# Altium footprint library PKMCS1818E20A0-R1.PcbLib: 1 footprints
Each footprint in its own frame and in the unit in brackets; x right, y up, seen from the top. Pads: shape width x height; smd on the part's side, far side on the other; paste and mask are expansions set on the pad; w line width, h text height; cw(c..) or ccw(c..) is an arc to the next point about the centre after c.
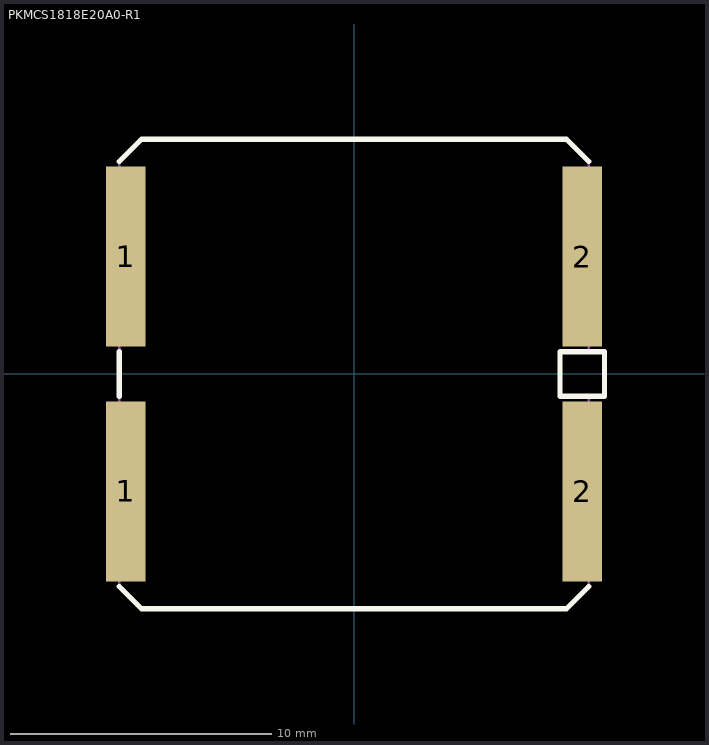
[diagram p0: the footprint, top view; thin cyan lines are the x and y axes]

## PKMCS1818E20A0-R1 [mm]
height 0.55
pads (4):
  rect 1.5x6.9 smd: 1(-8.75,-4.5) 1(-8.75,4.5) 2(8.75,-4.5) 2(8.75,4.5)
Top Overlay:
  lines w0.2: -9,-8.15 -8.15,-9 8.15,-9 9,-8.15 ; -9,-0.85 -9,0.85 ; -9,8.15 -8.15,9 8.15,9 9,8.15 ; 7.9,-0.85 7.9,0.85 9.6,0.85 9.6,-0.85 7.9,-0.85
Top Assembly:
  lines w0.1: 9,-0.85 9,-8.15 8.15,-9 -8.15,-9 -9,-8.15 -9,8.15 -8.15,9 8.15,9 9,8.15 9,0.85 ; 7.9,-0.85 7.9,0.85 9.6,0.85 9.6,-0.85 7.9,-0.85
  text "'.Designator'" at -3.965,-0.292 h0.7
3D body "User Library-PKMCS1818E20A0-R1.step": height 7.9, standoff 0, extent -9,-9 9,9